# Altium schematic symbol library IntegratedCircuits.SchLib: 1 symbol
Pins are listed as number, name and electrical type; pins without a type are passive.

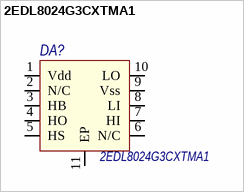
[diagram p0: symbol 2EDL8024G3CXTMA1]

## 2EDL8024G3CXTMA1
designator DA?
Драйвер мосфет транзисторов; Parameter 1: *
footprint PG-VSON-10-4 (SON, 10-Leads, Body 3,00x3,00mm, Pitch 0,50mm, Thermal Pad 2,05x1,70mm, IPC Medium Density)
pins: 1 Vdd, 2 N/C, 3 HB, 4 HO, 5 HS, 6 N/C, 7 HI, 8 LI, 9 Vss, 10 LO, 11 EP